# EAGLE library part ADAFRUIT-TB6612-MOTOR-DRIVER (library BOBs)
Adafruit-TB6612-Motor-Driver
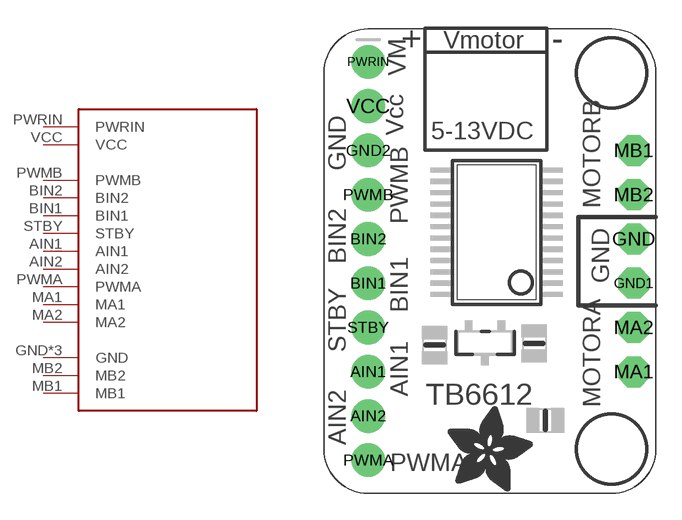
[diagram p15: symbol with the pads of ADAFRUIT-TB6612-MOTOR-DRIVER; footprint ADAFRUIT-TB6612-MOTOR-DRIVER]

Designator prefix -

## ADAFRUIT-TB6612-MOTOR-DRIVER-BOB  [ADAFRUIT-TB6612-MOTOR-DRIVER]
AIN1  AIN1
AIN2  AIN2
BIN1  BIN1
BIN2  BIN2
GND  GND
GND1  GND
GND2  GND
MA1  MA1
MA2  MA2
MB1  MB1
MB2  MB2
PWMA  PWMA
PWMB  PWMB
PWRIN  PWRIN
STBY  STBY
VCC  VCC

## Footprint ADAFRUIT-TB6612-MOTOR-DRIVER (pad centres in mm)
drill 1 pad 1.93: AIN1 2.54,6.985; AIN2 2.54,4.445; BIN1 2.54,12.065; BIN2 2.54,14.605; GND2 2.54,19.685; PWMA 2.54,1.905; PWMB 2.54,17.145; PWRIN 2.54,24.765; STBY 2.54,9.525; VCC 2.54,22.225
drill 1.016 pad 1.778 octagon: GND 17.78,14.605; GND1 17.78,12.065; MA1 17.78,6.985; MA2 17.78,9.525; MB1 17.78,19.685; MB2 17.78,17.145